# Altium footprint library FUSC325X165X75L42N.PcbLib: 1 footprints
Each footprint in its own frame and in the unit in brackets; x right, y up, seen from the top. Pads: shape width x height; smd on the part's side, far side on the other; paste and mask are expansions set on the pad; w line width, h text height; cw(c..) or ccw(c..) is an arc to the next point about the centre after c.
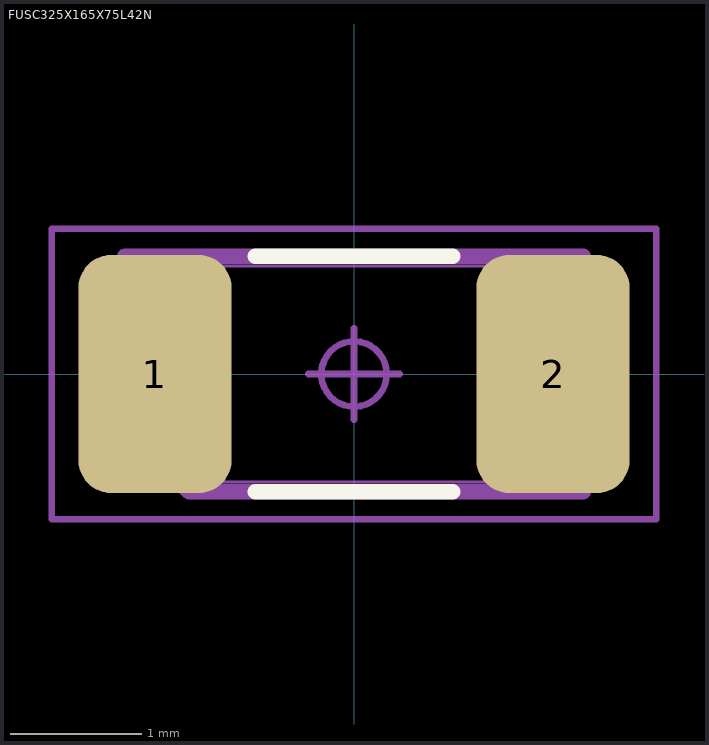
[diagram p0: the footprint, top view; thin cyan lines are the x and y axes]

## FUSC325X165X75L42N [mm] "Fuse, Chip; 3.25 mm L X 1.65 mm W X 0.75 mm H body"
height 0.75
pads (2):
  rrect43% 1.17x1.82 smd: 1(-1.52,0) 2(1.52,0)
Top Overlay:
  lines w0.12: -0.755,-0.9 0.755,-0.9 ; -0.755,0.9 0.755,0.9
Mechanical 3:
  lines w0.12: -1.75,-0.409 -1.75,0.9 1.75,0.9 1.75,-0.9 -1.259,-0.9 -1.75,-0.409
Mechanical 5:
  lines w0.025: -1.625,-0.825 1.625,-0.825 ; -1.625,-0.825 -1.625,0.825 ; -1.625,-0.825 -1.625,0.825 ; -1.625,-0.825 -1.2,-0.825 -1.2,0.825 -1.625,0.825 ; -1.625,0.825 1.625,0.825 ; 1.625,-0.825 1.625,0.825 ; 1.625,-0.825 1.2,-0.825 1.2,0.825 1.625,0.825 ; 1.625,-0.825 1.625,0.825
Mechanical 7:
  circle w0.05: c0,0 r0.25
  lines w0.05: -0.35,0 0.35,0 ; 0,-0.35 0,0.35 ; -2.31,-1.11 2.31,-1.11 2.31,1.11 -2.31,1.11 -2.31,-1.11
Mechanical 9:
  text "'.Designator'" at -5.588,-0.381 h1
3D body "FUSC325X165X75L42.STEP": height 0.75, standoff 0, extent -1.625,-0.825 1.625,0.825
3D body: height 1, standoff 0, extent -2.31,-1.11 2.31,1.11